# Altium footprint library Connector_Molex.PcbLib: 815 footprints (part 37 of 51)
Each footprint in its own frame and in the unit in brackets; x right, y up, seen from the top. Pads: shape width x height; smd on the part's side, far side on the other; paste and mask are expansions set on the pad; w line width, h text height; cw(c..) or ccw(c..) is an arc to the next point about the centre after c.
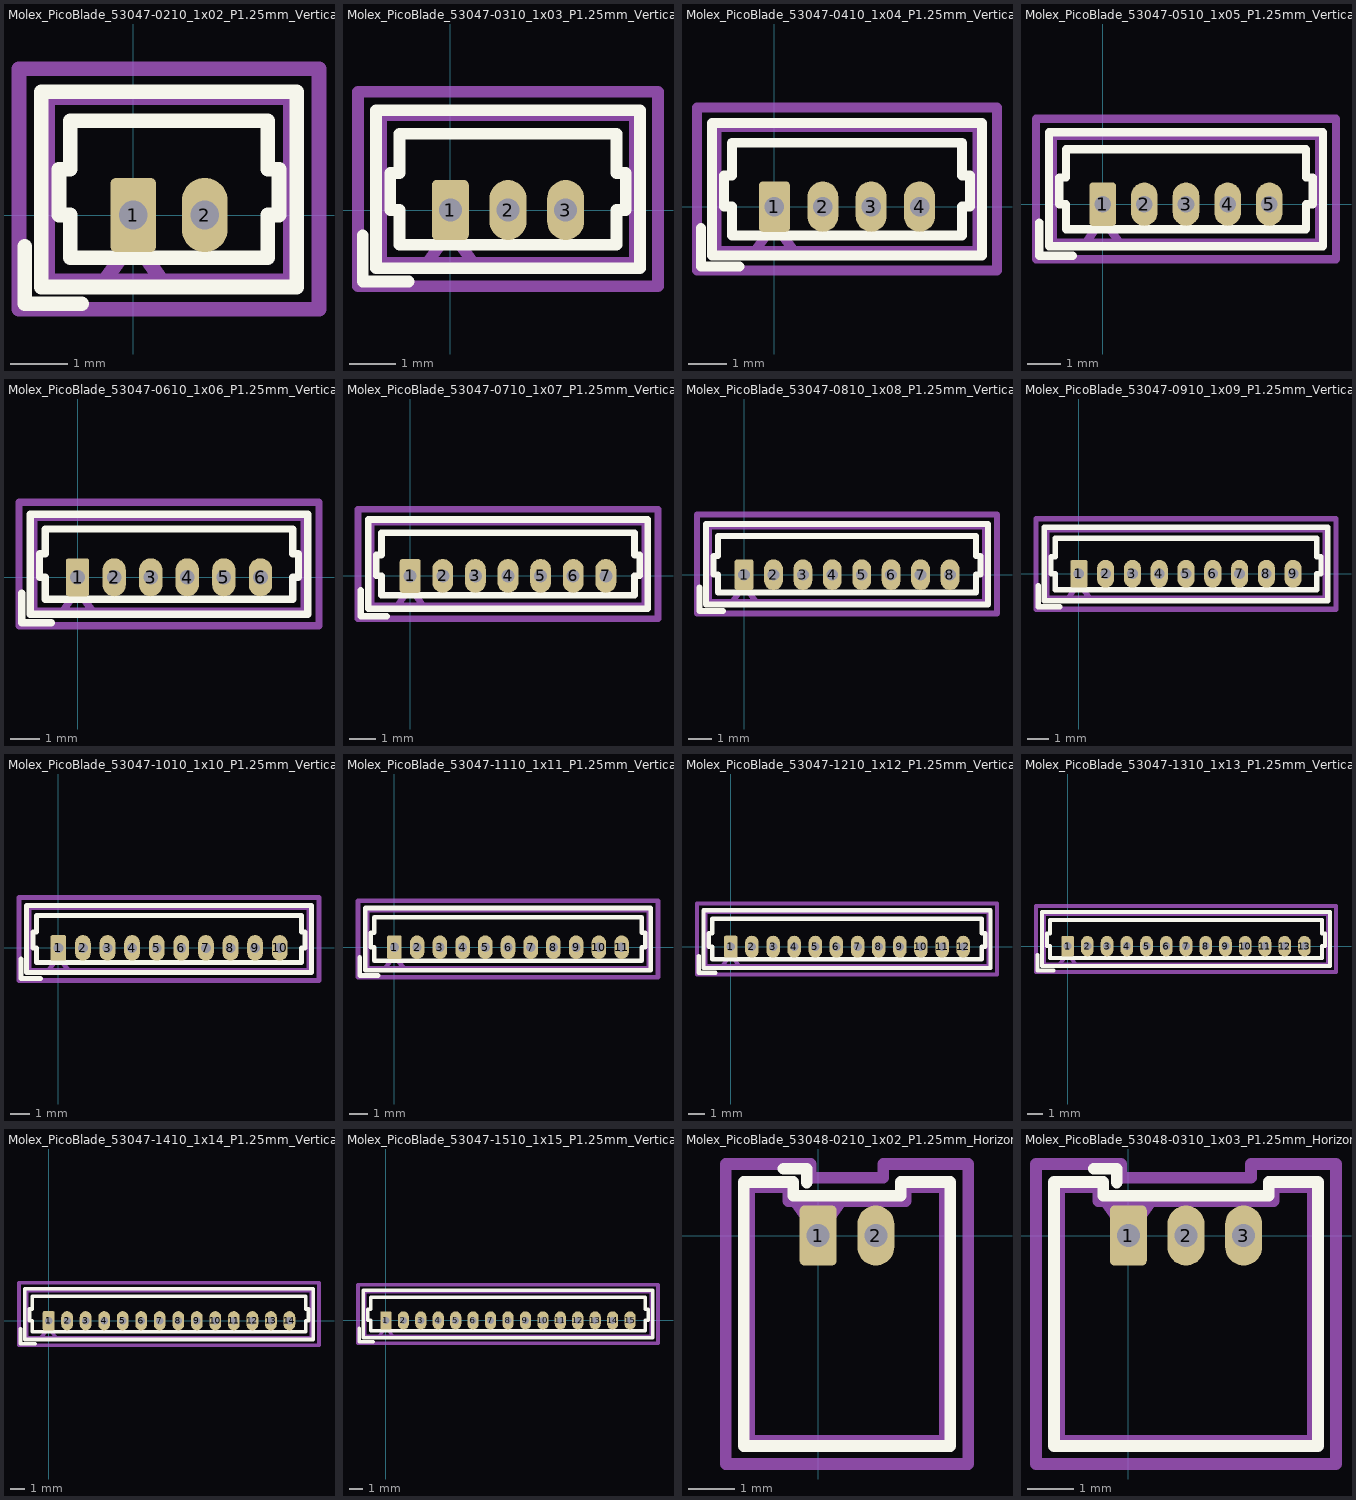
[diagram p36: the footprints below, top view; thin cyan lines are the x and y axes]

## Molex_PicoBlade_53047-0210_1x02_P1.25mm_Vertical [mm]
pads (2):
  rrect25% 0.8x1.3 hole 0.5: 1(0,0)
  rrect100% 0.8x1.3 hole 0.5: 2(1.25,0)
F.SilkS:
  lines w0.254: -1.9,-0.55 -1.9,-1.55 -0.9,-1.55 ; -1.61,-1.26 2.86,-1.26 2.86,2.16 -1.61,2.16 -1.61,-1.26 ; -1.3,0 -1.1,0 -1.1,-0.75 0.625,-0.75 2.35,-0.75 2.35,0 2.55,0 2.55,0.8 2.35,0.8 2.35,1.65 0.625,1.65 -1.1,1.65 -1.1,0.8 -1.3,0.8 -1.3,0
Top Assembly:
  lines w0.254: -0.5,-1.15 0,-0.443 0.5,-1.15 ; -1.5,-1.15 2.75,-1.15 2.75,2.05 -1.5,2.05 -1.5,-1.15
  text "'.Designator'" at -3.427,0.51 h1
Top Courtyard:
  lines w0.254: -2,-1.65 3.25,-1.65 3.25,2.56 -2,2.56 -2,-1.65
Top Designator:
  text ".Designator" at -7.148,-0.053 h1.52

## Molex_PicoBlade_53047-0310_1x03_P1.25mm_Vertical [mm]
pads (3):
  rrect25% 0.8x1.3 hole 0.5: 1(0,0)
  rrect100% 0.8x1.3 hole 0.5: 2(1.25,0) 3(2.5,0)
F.SilkS:
  lines w0.254: -1.9,-0.55 -1.9,-1.55 -0.9,-1.55 ; -1.61,-1.26 4.11,-1.26 4.11,2.16 -1.61,2.16 -1.61,-1.26 ; -1.3,0 -1.1,0 -1.1,-0.75 1.25,-0.75 3.6,-0.75 3.6,0 3.8,0 3.8,0.8 3.6,0.8 3.6,1.65 1.25,1.65 -1.1,1.65 -1.1,0.8 -1.3,0.8 -1.3,0
Top Assembly:
  lines w0.254: -0.5,-1.15 0,-0.443 0.5,-1.15 ; -1.5,-1.15 4,-1.15 4,2.05 -1.5,2.05 -1.5,-1.15
  text "'.Designator'" at -2.797,0.51 h1
Top Courtyard:
  lines w0.254: -2,-1.65 4.5,-1.65 4.5,2.56 -2,2.56 -2,-1.65
Top Designator:
  text ".Designator" at -6.518,-0.053 h1.52

## Molex_PicoBlade_53047-0410_1x04_P1.25mm_Vertical [mm]
pads (4):
  rrect25% 0.8x1.3 hole 0.5: 1(0,0)
  rrect100% 0.8x1.3 hole 0.5: 2(1.25,0) 3(2.5,0) 4(3.75,0)
F.SilkS:
  lines w0.254: -1.9,-0.55 -1.9,-1.55 -0.9,-1.55 ; -1.61,-1.26 5.36,-1.26 5.36,2.16 -1.61,2.16 -1.61,-1.26 ; -1.3,0 -1.1,0 -1.1,-0.75 1.875,-0.75 4.85,-0.75 4.85,0 5.05,0 5.05,0.8 4.85,0.8 4.85,1.65 1.875,1.65 -1.1,1.65 -1.1,0.8 -1.3,0.8 -1.3,0
Top Assembly:
  lines w0.254: -0.5,-1.15 0,-0.443 0.5,-1.15 ; -1.5,-1.15 5.25,-1.15 5.25,2.05 -1.5,2.05 -1.5,-1.15
  text "'.Designator'" at -2.167,0.51 h1
Top Courtyard:
  lines w0.254: -2,-1.65 5.75,-1.65 5.75,2.56 -2,2.56 -2,-1.65
Top Designator:
  text ".Designator" at -5.837,-0.053 h1.52

## Molex_PicoBlade_53047-0510_1x05_P1.25mm_Vertical [mm]
pads (5):
  rrect25% 0.8x1.3 hole 0.5: 1(0,0)
  rrect100% 0.8x1.3 hole 0.5: 2(1.25,0) 3(2.5,0) 4(3.75,0) 5(5,0)
F.SilkS:
  lines w0.254: -1.9,-0.55 -1.9,-1.55 -0.9,-1.55 ; -1.61,-1.26 6.61,-1.26 6.61,2.16 -1.61,2.16 -1.61,-1.26 ; -1.3,0 -1.1,0 -1.1,-0.75 2.5,-0.75 6.1,-0.75 6.1,0 6.3,0 6.3,0.8 6.1,0.8 6.1,1.65 2.5,1.65 -1.1,1.65 -1.1,0.8 -1.3,0.8 -1.3,0
Top Assembly:
  lines w0.254: -0.5,-1.15 0,-0.443 0.5,-1.15 ; -1.5,-1.15 6.5,-1.15 6.5,2.05 -1.5,2.05 -1.5,-1.15
  text "'.Designator'" at -1.547,0.51 h1
Top Courtyard:
  lines w0.254: -2,-1.65 7,-1.65 7,2.56 -2,2.56 -2,-1.65
Top Designator:
  text ".Designator" at -5.118,-0.053 h1.52

## Molex_PicoBlade_53047-0610_1x06_P1.25mm_Vertical [mm]
pads (6):
  rrect25% 0.8x1.3 hole 0.5: 1(0,0)
  rrect100% 0.8x1.3 hole 0.5: 2(1.25,0) 3(2.5,0) 4(3.75,0) 5(5,0) 6(6.25,0)
F.SilkS:
  lines w0.254: -1.9,-0.55 -1.9,-1.55 -0.9,-1.55 ; -1.61,-1.26 7.86,-1.26 7.86,2.16 -1.61,2.16 -1.61,-1.26 ; -1.3,0 -1.1,0 -1.1,-0.75 3.125,-0.75 7.35,-0.75 7.35,0 7.55,0 7.55,0.8 7.35,0.8 7.35,1.65 3.125,1.65 -1.1,1.65 -1.1,0.8 -1.3,0.8 -1.3,0
Top Assembly:
  lines w0.254: -0.5,-1.15 0,-0.443 0.5,-1.15 ; -1.5,-1.15 7.75,-1.15 7.75,2.05 -1.5,2.05 -1.5,-1.15
  text "'.Designator'" at -0.927,0.51 h1
Top Courtyard:
  lines w0.254: -2,-1.65 8.25,-1.65 8.25,2.56 -2,2.56 -2,-1.65
Top Designator:
  text ".Designator" at -4.493,-0.053 h1.52

## Molex_PicoBlade_53047-0710_1x07_P1.25mm_Vertical [mm]
pads (7):
  rrect25% 0.8x1.3 hole 0.5: 1(0,0)
  rrect100% 0.8x1.3 hole 0.5: 2(1.25,0) 3(2.5,0) 4(3.75,0) 5(5,0) 6(6.25,0) 7(7.5,0)
F.SilkS:
  lines w0.254: -1.9,-0.55 -1.9,-1.55 -0.9,-1.55 ; -1.61,-1.26 9.11,-1.26 9.11,2.16 -1.61,2.16 -1.61,-1.26 ; -1.3,0 -1.1,0 -1.1,-0.75 3.75,-0.75 8.6,-0.75 8.6,0 8.8,0 8.8,0.8 8.6,0.8 8.6,1.65 3.75,1.65 -1.1,1.65 -1.1,0.8 -1.3,0.8 -1.3,0
Top Assembly:
  lines w0.254: -0.5,-1.15 0,-0.443 0.5,-1.15 ; -1.5,-1.15 9,-1.15 9,2.05 -1.5,2.05 -1.5,-1.15
  text "'.Designator'" at -0.297,0.51 h1
Top Courtyard:
  lines w0.254: -2,-1.65 9.5,-1.65 9.5,2.56 -2,2.56 -2,-1.65
Top Designator:
  text ".Designator" at -3.868,-0.053 h1.52

## Molex_PicoBlade_53047-0810_1x08_P1.25mm_Vertical [mm]
pads (8):
  rrect25% 0.8x1.3 hole 0.5: 1(0,0)
  rrect100% 0.8x1.3 hole 0.5: 2(1.25,0) 3(2.5,0) 4(3.75,0) 5(5,0) 6(6.25,0) 7(7.5,0) 8(8.75,0)
F.SilkS:
  lines w0.254: -1.9,-0.55 -1.9,-1.55 -0.9,-1.55 ; -1.61,-1.26 10.36,-1.26 10.36,2.16 -1.61,2.16 -1.61,-1.26 ; -1.3,0 -1.1,0 -1.1,-0.75 4.375,-0.75 9.85,-0.75 9.85,0 10.05,0 10.05,0.8 9.85,0.8 9.85,1.65 4.375,1.65 -1.1,1.65 -1.1,0.8 -1.3,0.8 -1.3,0
Top Assembly:
  lines w0.254: -0.5,-1.15 0,-0.443 0.5,-1.15 ; -1.5,-1.15 10.25,-1.15 10.25,2.05 -1.5,2.05 -1.5,-1.15
  text "'.Designator'" at 0.333,0.51 h1
Top Courtyard:
  lines w0.254: -2,-1.65 10.75,-1.65 10.75,2.56 -2,2.56 -2,-1.65
Top Designator:
  text ".Designator" at -3.243,-0.053 h1.52

## Molex_PicoBlade_53047-0910_1x09_P1.25mm_Vertical [mm]
pads (9):
  rrect25% 0.8x1.3 hole 0.5: 1(0,0)
  rrect100% 0.8x1.3 hole 0.5: 2(1.25,0) 3(2.5,0) 4(3.75,0) 5(5,0) 6(6.25,0) 7(7.5,0) 8(8.75,0) 9(10,0)
F.SilkS:
  lines w0.254: -1.9,-0.55 -1.9,-1.55 -0.9,-1.55 ; -1.61,-1.26 11.61,-1.26 11.61,2.16 -1.61,2.16 -1.61,-1.26 ; -1.3,0 -1.1,0 -1.1,-0.75 5,-0.75 11.1,-0.75 11.1,0 11.3,0 11.3,0.8 11.1,0.8 11.1,1.65 5,1.65 -1.1,1.65 -1.1,0.8 -1.3,0.8 -1.3,0
Top Assembly:
  lines w0.254: -0.5,-1.15 0,-0.443 0.5,-1.15 ; -1.5,-1.15 11.5,-1.15 11.5,2.05 -1.5,2.05 -1.5,-1.15
  text "'.Designator'" at 0.953,0.51 h1
Top Courtyard:
  lines w0.254: -2,-1.65 12,-1.65 12,2.56 -2,2.56 -2,-1.65
Top Designator:
  text ".Designator" at -2.618,-0.053 h1.52

## Molex_PicoBlade_53047-1010_1x10_P1.25mm_Vertical [mm]
pads (10):
  rrect25% 0.8x1.3 hole 0.5: 1(0,0)
  rrect100% 0.8x1.3 hole 0.5: 2(1.25,0) 3(2.5,0) 4(3.75,0) 5(5,0) 6(6.25,0) 7(7.5,0) 8(8.75,0) 9(10,0) 10(11.25,0)
F.SilkS:
  lines w0.254: -1.9,-0.55 -1.9,-1.55 -0.9,-1.55 ; -1.61,-1.26 12.86,-1.26 12.86,2.16 -1.61,2.16 -1.61,-1.26 ; -1.3,0 -1.1,0 -1.1,-0.75 5.625,-0.75 12.35,-0.75 12.35,0 12.55,0 12.55,0.8 12.35,0.8 12.35,1.65 5.625,1.65 -1.1,1.65 -1.1,0.8 -1.3,0.8 -1.3,0
Top Assembly:
  lines w0.254: -0.5,-1.15 0,-0.443 0.5,-1.15 ; -1.5,-1.15 12.75,-1.15 12.75,2.05 -1.5,2.05 -1.5,-1.15
  text "'.Designator'" at 1.573,0.51 h1
Top Courtyard:
  lines w0.254: -2,-1.65 13.25,-1.65 13.25,2.56 -2,2.56 -2,-1.65
Top Designator:
  text ".Designator" at -1.993,-0.053 h1.52

## Molex_PicoBlade_53047-1110_1x11_P1.25mm_Vertical [mm]
pads (11):
  rrect25% 0.8x1.3 hole 0.5: 1(0,0)
  rrect100% 0.8x1.3 hole 0.5: 2(1.25,0) 3(2.5,0) 4(3.75,0) 5(5,0) 6(6.25,0) 7(7.5,0) 8(8.75,0) 9(10,0) 10(11.25,0) 11(12.5,0)
F.SilkS:
  lines w0.254: -1.9,-0.55 -1.9,-1.55 -0.9,-1.55 ; -1.61,-1.26 14.11,-1.26 14.11,2.16 -1.61,2.16 -1.61,-1.26 ; -1.3,0 -1.1,0 -1.1,-0.75 6.25,-0.75 13.6,-0.75 13.6,0 13.8,0 13.8,0.8 13.6,0.8 13.6,1.65 6.25,1.65 -1.1,1.65 -1.1,0.8 -1.3,0.8 -1.3,0
Top Assembly:
  lines w0.254: -0.5,-1.15 0,-0.443 0.5,-1.15 ; -1.5,-1.15 14,-1.15 14,2.05 -1.5,2.05 -1.5,-1.15
  text "'.Designator'" at 2.203,0.51 h1
Top Courtyard:
  lines w0.254: -2,-1.65 14.5,-1.65 14.5,2.56 -2,2.56 -2,-1.65
Top Designator:
  text ".Designator" at -1.368,-0.053 h1.52

## Molex_PicoBlade_53047-1210_1x12_P1.25mm_Vertical [mm]
pads (12):
  rrect25% 0.8x1.3 hole 0.5: 1(0,0)
  rrect100% 0.8x1.3 hole 0.5: 2(1.25,0) 3(2.5,0) 4(3.75,0) 5(5,0) 6(6.25,0) 7(7.5,0) 8(8.75,0) 9(10,0) 10(11.25,0) 11(12.5,0) 12(13.75,0)
F.SilkS:
  lines w0.254: -1.9,-0.55 -1.9,-1.55 -0.9,-1.55 ; -1.61,-1.26 15.36,-1.26 15.36,2.16 -1.61,2.16 -1.61,-1.26 ; -1.3,0 -1.1,0 -1.1,-0.75 6.875,-0.75 14.85,-0.75 14.85,0 15.05,0 15.05,0.8 14.85,0.8 14.85,1.65 6.875,1.65 -1.1,1.65 -1.1,0.8 -1.3,0.8 -1.3,0
Top Assembly:
  lines w0.254: -0.5,-1.15 0,-0.443 0.5,-1.15 ; -1.5,-1.15 15.25,-1.15 15.25,2.05 -1.5,2.05 -1.5,-1.15
  text "'.Designator'" at 2.833,0.51 h1
Top Courtyard:
  lines w0.254: -2,-1.65 15.75,-1.65 15.75,2.56 -2,2.56 -2,-1.65
Top Designator:
  text ".Designator" at -0.743,-0.053 h1.52

## Molex_PicoBlade_53047-1310_1x13_P1.25mm_Vertical [mm]
pads (13):
  rrect25% 0.8x1.3 hole 0.5: 1(0,0)
  rrect100% 0.8x1.3 hole 0.5: 2(1.25,0) 3(2.5,0) 4(3.75,0) 5(5,0) 6(6.25,0) 7(7.5,0) 8(8.75,0) 9(10,0) 10(11.25,0) 11(12.5,0) 12(13.75,0) 13(15,0)
F.SilkS:
  lines w0.254: -1.9,-0.55 -1.9,-1.55 -0.9,-1.55 ; -1.61,-1.26 16.61,-1.26 16.61,2.16 -1.61,2.16 -1.61,-1.26 ; -1.3,0 -1.1,0 -1.1,-0.75 7.5,-0.75 16.1,-0.75 16.1,0 16.3,0 16.3,0.8 16.1,0.8 16.1,1.65 7.5,1.65 -1.1,1.65 -1.1,0.8 -1.3,0.8 -1.3,0
Top Assembly:
  lines w0.254: -0.5,-1.15 0,-0.443 0.5,-1.15 ; -1.5,-1.15 16.5,-1.15 16.5,2.05 -1.5,2.05 -1.5,-1.15
  text "'.Designator'" at 3.453,0.51 h1
Top Courtyard:
  lines w0.254: -2,-1.65 17,-1.65 17,2.56 -2,2.56 -2,-1.65
Top Designator:
  text ".Designator" at -0.118,-0.053 h1.52

## Molex_PicoBlade_53047-1410_1x14_P1.25mm_Vertical [mm]
pads (14):
  rrect25% 0.8x1.3 hole 0.5: 1(0,0)
  rrect100% 0.8x1.3 hole 0.5: 2(1.25,0) 3(2.5,0) 4(3.75,0) 5(5,0) 6(6.25,0) 7(7.5,0) 8(8.75,0) 9(10,0) 10(11.25,0) 11(12.5,0) 12(13.75,0) 13(15,0) 14(16.25,0)
F.SilkS:
  lines w0.254: -1.9,-0.55 -1.9,-1.55 -0.9,-1.55 ; -1.61,-1.26 17.86,-1.26 17.86,2.16 -1.61,2.16 -1.61,-1.26 ; -1.3,0 -1.1,0 -1.1,-0.75 8.125,-0.75 17.35,-0.75 17.35,0 17.55,0 17.55,0.8 17.35,0.8 17.35,1.65 8.125,1.65 -1.1,1.65 -1.1,0.8 -1.3,0.8 -1.3,0
Top Assembly:
  lines w0.254: -0.5,-1.15 0,-0.443 0.5,-1.15 ; -1.5,-1.15 17.75,-1.15 17.75,2.05 -1.5,2.05 -1.5,-1.15
  text "'.Designator'" at 4.073,0.51 h1
Top Courtyard:
  lines w0.254: -2,-1.65 18.25,-1.65 18.25,2.56 -2,2.56 -2,-1.65
Top Designator:
  text ".Designator" at 0.507,-0.053 h1.52

## Molex_PicoBlade_53047-1510_1x15_P1.25mm_Vertical [mm]
pads (15):
  rrect25% 0.8x1.3 hole 0.5: 1(0,0)
  rrect100% 0.8x1.3 hole 0.5: 2(1.25,0) 3(2.5,0) 4(3.75,0) 5(5,0) 6(6.25,0) 7(7.5,0) 8(8.75,0) 9(10,0) 10(11.25,0) 11(12.5,0) 12(13.75,0) 13(15,0) 14(16.25,0) 15(17.5,0)
F.SilkS:
  lines w0.254: -1.9,-0.55 -1.9,-1.55 -0.9,-1.55 ; -1.61,-1.26 19.11,-1.26 19.11,2.16 -1.61,2.16 -1.61,-1.26 ; -1.3,0 -1.1,0 -1.1,-0.75 8.75,-0.75 18.6,-0.75 18.6,0 18.8,0 18.8,0.8 18.6,0.8 18.6,1.65 8.75,1.65 -1.1,1.65 -1.1,0.8 -1.3,0.8 -1.3,0
Top Assembly:
  lines w0.254: -0.5,-1.15 0,-0.443 0.5,-1.15 ; -1.5,-1.15 19,-1.15 19,2.05 -1.5,2.05 -1.5,-1.15
  text "'.Designator'" at 4.703,0.51 h1
Top Courtyard:
  lines w0.254: -2,-1.65 19.5,-1.65 19.5,2.56 -2,2.56 -2,-1.65
Top Designator:
  text ".Designator" at 1.132,-0.053 h1.52

## Molex_PicoBlade_53048-0210_1x02_P1.25mm_Horizontal [mm]
pads (2):
  rrect25% 0.8x1.3 hole 0.5: 1(0,0)
  rrect100% 0.8x1.3 hole 0.5: 2(1.25,0)
F.SilkS:
  lines w0.254: -0.75,1.45 -0.25,1.45 -0.25,1.15 ; -1.61,-4.56 0.625,-4.56 2.86,-4.56 2.86,1.16 1.79,1.16 1.79,0.86 0.625,0.86 -0.54,0.86 -0.54,1.16 -1.61,1.16 -1.61,-4.56
Top Assembly:
  lines w0.254: -0.5,0.75 0,0.043 0.5,0.75 ; -1.5,-4.45 0.625,-4.45 2.75,-4.45 2.75,1.05 1.9,1.05 1.9,0.75 0.625,0.75 -0.65,0.75 -0.65,1.05 -1.5,1.05 -1.5,-4.45
  text "'.Designator'" at -3.427,-4.59 h1
Top Courtyard:
  lines w0.254: 0.62,-4.95 3.25,-4.95 3.25,1.55 1.41,1.55 1.41,1.25 0.62,1.25 ; 0.63,-4.95 -2,-4.95 -2,1.55 -0.16,1.55 -0.16,1.25 0.63,1.25
Top Designator:
  text ".Designator" at -7.148,-2.208 h1.52

## Molex_PicoBlade_53048-0310_1x03_P1.25mm_Horizontal [mm]
pads (3):
  rrect25% 0.8x1.3 hole 0.5: 1(0,0)
  rrect100% 0.8x1.3 hole 0.5: 2(1.25,0) 3(2.5,0)
F.SilkS:
  lines w0.254: -0.75,1.45 -0.25,1.45 -0.25,1.15 ; -1.61,-4.56 1.25,-4.56 4.11,-4.56 4.11,1.16 3.04,1.16 3.04,0.86 1.25,0.86 -0.54,0.86 -0.54,1.16 -1.61,1.16 -1.61,-4.56
Top Assembly:
  lines w0.254: -0.5,0.75 0,0.043 0.5,0.75 ; -1.5,-4.45 1.25,-4.45 4,-4.45 4,1.05 3.15,1.05 3.15,0.75 1.25,0.75 -0.65,0.75 -0.65,1.05 -1.5,1.05 -1.5,-4.45
  text "'.Designator'" at -2.797,-4.59 h1
Top Courtyard:
  lines w0.254: -2,-4.95 1.25,-4.95 4.5,-4.95 4.5,1.55 2.66,1.55 2.66,1.25 1.25,1.25 -0.16,1.25 -0.16,1.55 -2,1.55 -2,-4.95
Top Designator:
  text ".Designator" at -6.518,-2.208 h1.52